# EAGLE library part CY62148 (library memory-cypress)
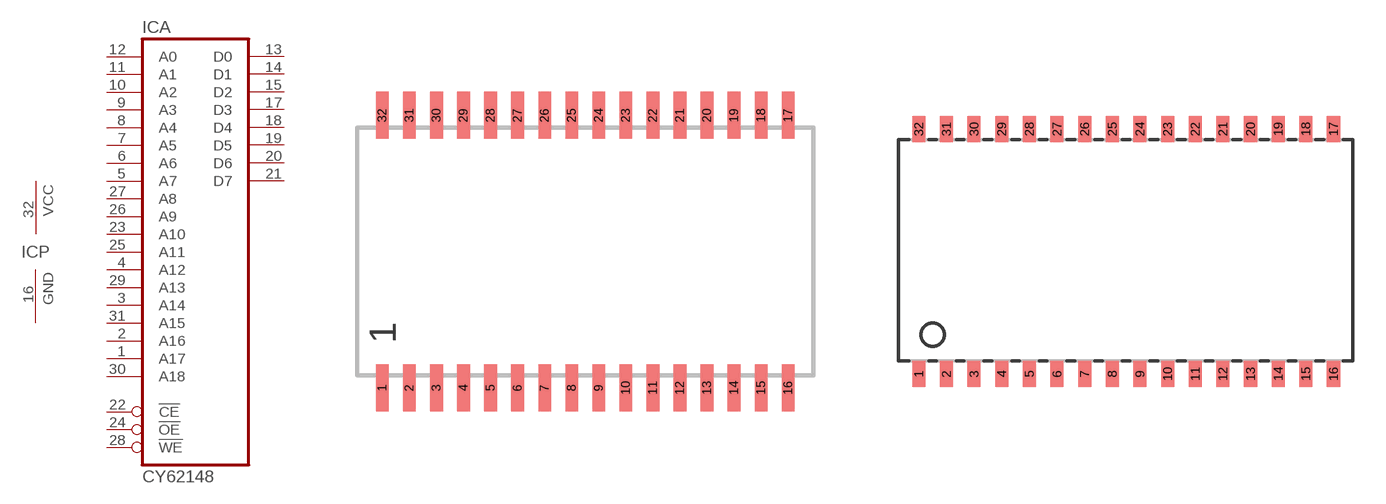
[diagram p2: symbol with the pads of SOP32; footprints SOP32, TSOPII-32]

Designator prefix IC; gates A=4MBIT_512KX8 P=PWR-GND

## CY62148S  [SOP32]
1  A:A17  in
2  A:A16  in
3  A:A14  in
4  A:A12  in
5  A:A7  in
6  A:A6  in
7  A:A5  in
8  A:A4  in
9  A:A3  in
10  A:A2  in
11  A:A1  in
12  A:A0  in
13  A:D0
14  A:D1
15  A:D2
16  P:GND  pwr
17  A:D3
18  A:D4
19  A:D5
20  A:D6
21  A:D7
22  A:!CE  in
23  A:A10  in
24  A:!OE  in
25  A:A11  in
26  A:A9  in
27  A:A8  in
28  A:!WE  in
29  A:A13  in
30  A:A18  in
31  A:A15  in
32  P:VCC  pwr

## CY62148Z  [TSOPII-32]
Pads as for SOP32

## Footprint SOP32 (pad centres in mm)
SMALL OUTLINE PACKAGE
smd 0.6 x 2.2: 1 -9.525,-6.4; 2 -8.255,-6.4; 3 -6.985,-6.4; 4 -5.715,-6.4; 5 -4.445,-6.4; 6 -3.175,-6.4; 7 -1.905,-6.4; 8 -0.635,-6.4; 9 0.635,-6.4; 10 1.905,-6.4; 11 3.175,-6.4; 12 4.445,-6.4; 13 5.715,-6.4; 14 6.985,-6.4; 15 8.255,-6.4; 16 9.525,-6.4; 17 9.525,6.4; 18 8.255,6.4; 19 6.985,6.4; 20 5.715,6.4; 21 4.445,6.4; 22 3.175,6.4; 23 1.905,6.4; 24 0.635,6.4; 25 -0.635,6.4; 26 -1.905,6.4; 27 -3.175,6.4; 28 -4.445,6.4; 29 -5.715,6.4; 30 -6.985,6.4; 31 -8.255,6.4; 32 -9.525,6.4

## Footprint TSOPII-32 (pad centres in mm)
32-pin TSOP II (51-85095) Source: Cypress CYP05780611.pdf
smd 0.6 x 1.2: 1 -9.525,-5.627; 2 -8.255,-5.627; 3 -6.985,-5.627; 4 -5.715,-5.627; 5 -4.445,-5.627; 6 -3.175,-5.627; 7 -1.905,-5.627; 8 -0.635,-5.627; 9 0.635,-5.627; 10 1.905,-5.627; 11 3.175,-5.627; 12 4.445,-5.627; 13 5.715,-5.627; 14 6.985,-5.627; 15 8.255,-5.627; 16 9.525,-5.627; 17 9.525,5.629; 18 8.255,5.629; 19 6.985,5.629; 20 5.715,5.629; 21 4.445,5.629; 22 3.175,5.629; 23 1.905,5.629; 24 0.635,5.629; 25 -0.635,5.629; 26 -1.905,5.629; 27 -3.175,5.629; 28 -4.445,5.629; 29 -5.715,5.629; 30 -6.985,5.629; 31 -8.255,5.629; 32 -9.525,5.629